# Altium footprint library footprints.PcbLib: 3 footprints
Each footprint in its own frame and in the unit in brackets; x right, y up, seen from the top. Pads: shape width x height; smd on the part's side, far side on the other; paste and mask are expansions set on the pad; w line width, h text height; cw(c..) or ccw(c..) is an arc to the next point about the centre after c.
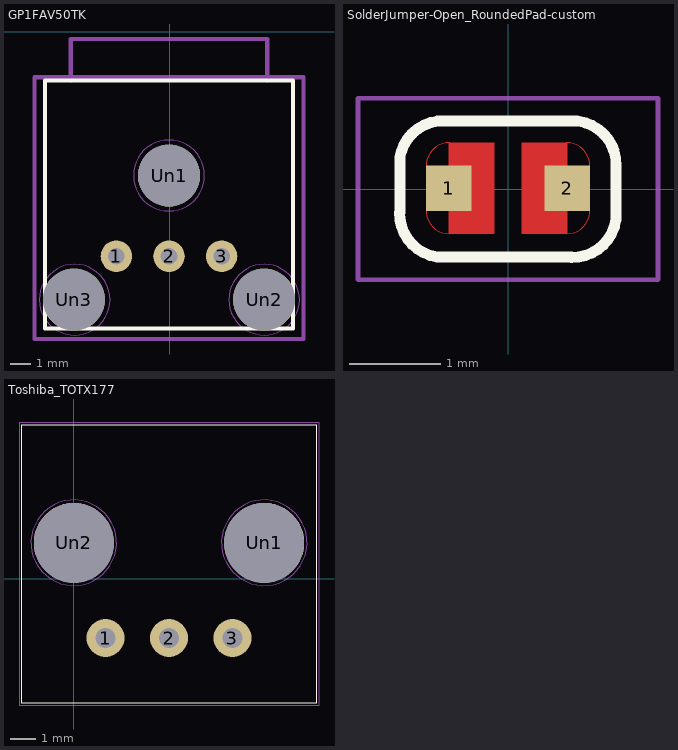
[diagram p0: the footprints below, top view; thin cyan lines are the x and y axes]

## GP1FAV50TK [mm]
pads (6):
  round 1.524 hole 0.8: 1(-2.58,-10.848) 2(-0.04,-10.848) 3(2.5,-10.848)
  round 3 hole 3: Un1(-0.04,-6.948) Un2(4.56,-12.948) Un3(-4.64,-12.948)
F.SilkS:
  lines w0.2: -6.04,-14.348 -6.04,-2.348 5.96,-2.348 5.96,-14.348 -6.04,-14.348 ; -4.79,-2.348 4.71,-2.348 -4.79,-2.348
F.CrtYd:
  circle w0.05: c-4.6,-12.948 r1.712
  circle w0.05: c4.56,-12.948 r1.712
  circle w0.05: c-0.04,-6.948 r1.712
  lines w0.2: -6.54,-14.848 -6.54,-2.2 6.46,-2.2 6.46,-14.848 -6.54,-14.848
F.Fab:
  text "'.Designator'" at -1.439,-2.898 h1
Cmts.User:
  lines w0.2: -4.79,-2.348 -4.79,-0.35 4.71,-0.35 4.71,-2.348

## SolderJumper-Open_RoundedPad-custom [mm]
pads (2):
  rect 0.5x0.5 smd: 1(-0.65,0.01) 2(0.65,0.01)
F.Cu:
  circle w0: c-0.65,-0.24 r0.25
  circle w0: c-0.65,0.26 r0.25
  region: -0.15,-0.49 -0.65,-0.49 -0.65,0.51 -0.15,0.51
  circle w0: c0.65,0.26 r0.25
  circle w0: c0.65,-0.24 r0.25
  region: 0.65,-0.49 0.15,-0.49 0.15,0.51 0.65,0.51
F.SilkS:
  lines w0.12: -1.192,-0.257 ccw(c-0.71,-0.27) -0.782,-0.747 ; -1.19,-0.26 -1.19,0.34 cw(c-0.713,0.268) -0.7,0.75 0.76,0.75 ; -0.78,-0.75 0.7,-0.75 ; 0.697,-0.752 ccw(c0.71,-0.27) 1.187,-0.342 1.187,0.258 ; 0.779,0.745 cw(c0.707,0.268) 1.189,0.255
F.Mask:
  circle w0: c-0.65,-0.24 r0.25
  circle w0: c-0.65,0.26 r0.25
  region: -0.15,-0.49 -0.65,-0.49 -0.65,0.51 -0.15,0.51
  circle w0: c0.65,0.26 r0.25
  circle w0: c0.65,-0.24 r0.25
  region: 0.65,-0.49 0.15,-0.49 0.15,0.51 0.65,0.51
F.CrtYd:
  lines w0.05: -1.65,-1 -1.65,1 1.65,1 1.65,-1 -1.65,-1

## Toshiba_TOTX177 [mm]
pads (5):
  round 1.524 hole 0.8: 1(1.28,-2.37) 2(3.82,-2.37) 3(6.36,-2.37)
  round 3.2 hole 3.2: Un1(7.63,1.44) Un2(0.01,1.44)
F.SilkS:
  lines w0.05: -2.08,-4.96 -2.08,6.14 9.72,6.14 9.72,-4.96 -2.08,-4.96
F.CrtYd:
  circle w0.05: c7.63,1.44 r1.712
  circle w0.05: c0.01,1.44 r1.712
  lines w0.05: -2.18,-5.06 -2.18,6.24 9.82,6.24 9.82,-5.06 -2.18,-5.06
F.Fab:
  text "'.Designator'" at 2.371,1.677 h1